# Altium footprint library CustomMiscallaneous.PcbLib: 4 footprints
Each footprint in its own frame and in the unit in brackets; x right, y up, seen from the top. Pads: shape width x height; smd on the part's side, far side on the other; paste and mask are expansions set on the pad; w line width, h text height; cw(c..) or ccw(c..) is an arc to the next point about the centre after c.
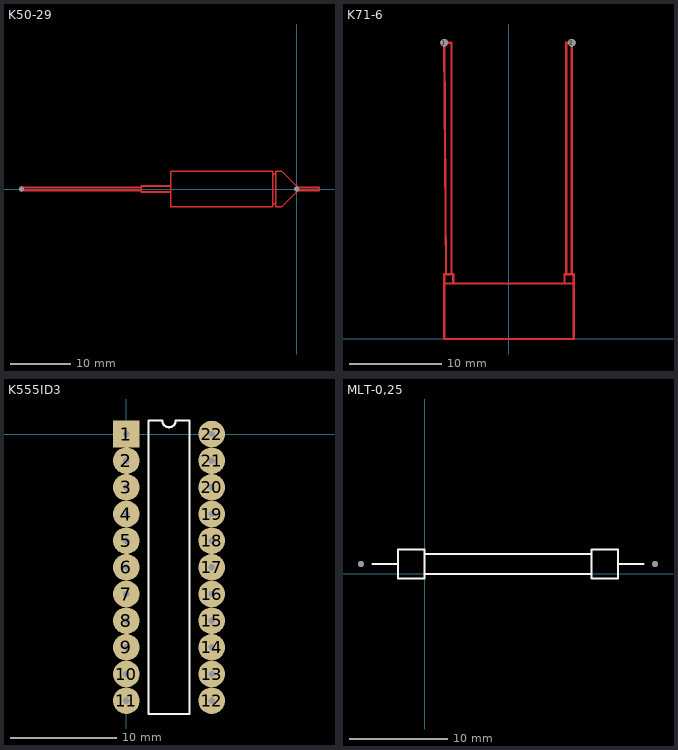
[diagram p0: the footprints below, top view; thin cyan lines are the x and y axes]

## K50-29 [mm]
height 6
pads (2):
  round 0.8 hole 0.8: 1(-46,0) 2(0,0)
Top Layer:
  lines w0.254: -4,-2.5 -3.5,-2.5 ; -4,2.5 -3.5,2.5 ; -26,-0.25 -26,-0.5 -21,-0.5 ; -26,-0.25 -26,0.25 ; -26,-0.25 -46,-0.25 -46,0.25 -26,0.25 ; -26,0.25 -26,0.5 -21,0.5 ; -21,-0.5 -21,-3 -4,-3 -4,3 -21,3 -21,0.5 ; -21,-0.5 -21,0.5 ; -3.5,-2.5 -3.5,-3 -2.5,-3 0,-0.5 ; -3.5,-2.5 -3.5,2.5 ; -3.5,2.5 -3.5,3 -2.5,3 0,0.5 ; 0,-0.5 0,-0.25 ; 0,-0.5 0,0.5 ; 0,-0.25 3.75,-0.25 3.75,0.25 0,0.25 ; 0,-0.25 0,0.25 ; 0,0.25 0,0.5

## K71-6 [mm]
height 31
pads (2):
  round 0.8 hole 0.8: 1(-7,32) 2(6.8,32)
Top Layer:
  lines w0.254: -6,6 -6,7 -7,7 -7,6 ; 6,6 6,7 7,7 7,6 ; -7,6 7,6 ; -7,6 -7,0 7,0 7,6 ; -7,32 -6.2,32 -6.2,7 -6.8,7 -7,32 ; 6.2,7 6.2,32 6.8,32 6.8,7 6.2,7

## K555ID3 [mm]
pads (22):
  rect 2.5x2.5 / inner rect 5x5 / far side rect 2.5x2.5 hole 0.6: 1(0,0)
  round 2.5 / inner round 5 / far side round 2.5 hole 0.6: 2(0,-2.5) 3(0,-5) 4(0,-7.5) 5(0,-10) 6(0,-12.5) 7(0,-15) 8(0,-17.5) 9(0,-20) 10(0,-22.5) 11(0,-25) 12(8,-25) 13(8,-22.5) 14(8,-20) 15(8,-17.5) 16(8,-15) 17(8,-12.5) 18(8,-10) 19(8,-7.5) 20(8,-5) 21(8,-2.5) 22(8,0)
Top Overlay:
  lines w0.2: 2.085,-26.25 2.085,1.25 3.375,1.25 ccw(c4,1.25) 4.625,1.25 5.915,1.25 5.915,-26.25 2.085,-26.25

## MLT-0,25 [mm]
pads (2):
  round 0.6 hole 0.6: 1(-6.5,1) 2(23.5,1)
Top Overlay:
  lines w0.2: -5.3,1 -2.725,1 ; 0,0 17,0 ; 0,2 4.028,2 10.084,2 17,2 ; 19.725,1 22.3,1 ; -2.725,1 -2.725,2.5 0,2.5 0,-0.5 -2.725,-0.5 -2.725,1 ; 17,-0.5 19.725,-0.5 19.725,2.5 17,2.5 17,-0.5